# Altium footprint library Project_Oshinoko.PcbLib: 202 footprints (part 3 of 13)
Each footprint in its own frame and in the unit in brackets; x right, y up, seen from the top. Pads: shape width x height; smd on the part's side, far side on the other; paste and mask are expansions set on the pad; w line width, h text height; cw(c..) or ccw(c..) is an arc to the next point about the centre after c.
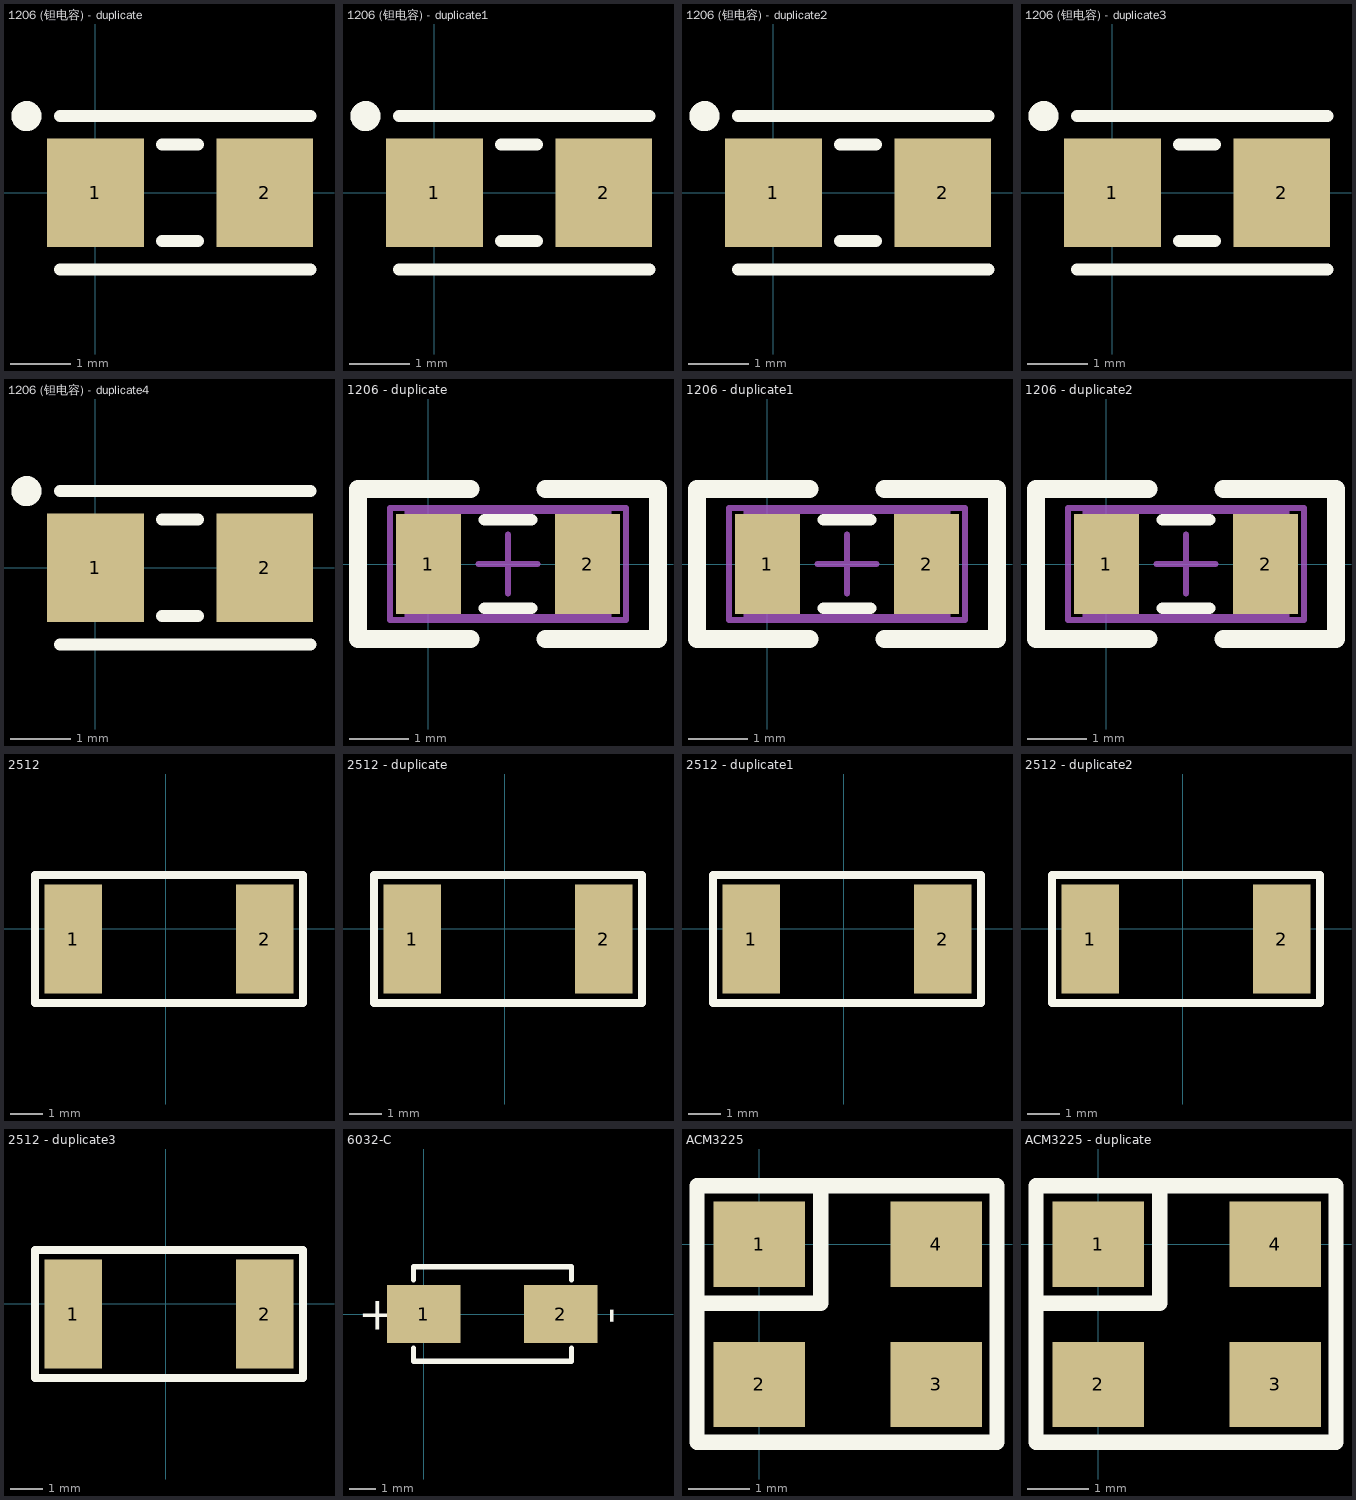
[diagram p2: the footprints below, top view; thin cyan lines are the x and y axes]

## 1206 (钽电容) - duplicate [mm]
pads (2):
  rect 1.6x1.8 smd: 1(0,0) 2(2.8,0)
Top Overlay:
  circle w0.25: c-1.141,1.27 r0.125
  lines w0.2: -0.585,-1.27 3.556,-1.27 ; -0.585,1.27 3.556,1.27 ; 1.1,-0.8 1.7,-0.8 ; 1.1,0.8 1.7,0.8

## 1206 (钽电容) - duplicate1 [mm]
pads (2):
  rect 1.6x1.8 smd: 1(0,0) 2(2.8,0)
Top Overlay:
  circle w0.25: c-1.141,1.27 r0.125
  lines w0.2: -0.585,-1.27 3.556,-1.27 ; -0.585,1.27 3.556,1.27 ; 1.1,-0.8 1.7,-0.8 ; 1.1,0.8 1.7,0.8

## 1206 (钽电容) - duplicate2 [mm]
pads (2):
  rect 1.6x1.8 smd: 1(0,0) 2(2.8,0)
Top Overlay:
  circle w0.25: c-1.141,1.27 r0.125
  lines w0.2: -0.585,-1.27 3.556,-1.27 ; -0.585,1.27 3.556,1.27 ; 1.1,-0.8 1.7,-0.8 ; 1.1,0.8 1.7,0.8

## 1206 (钽电容) - duplicate3 [mm]
pads (2):
  rect 1.6x1.8 smd: 1(0,0) 2(2.8,0)
Top Overlay:
  circle w0.25: c-1.141,1.27 r0.125
  lines w0.2: -0.585,-1.27 3.556,-1.27 ; -0.585,1.27 3.556,1.27 ; 1.1,-0.8 1.7,-0.8 ; 1.1,0.8 1.7,0.8

## 1206 (钽电容) - duplicate4 [mm]
pads (2):
  rect 1.6x1.8 smd: 1(0,0) 2(2.8,0)
Top Overlay:
  circle w0.25: c-1.141,1.27 r0.125
  lines w0.2: -0.585,-1.27 3.556,-1.27 ; -0.585,1.27 3.556,1.27 ; 1.1,-0.8 1.7,-0.8 ; 1.1,0.8 1.7,0.8

## 1206 - duplicate [mm]
pads (2):
  rect 1.1x1.7 smd: 1(0,0) 2(2.7,0)
Top Overlay:
  lines w0.2: 0.95,-0.75 1.75,-0.75 ; 0.95,0.75 1.75,0.75
  lines w0.305: 0.715,-1.27 -1.19,-1.27 -1.19,1.27 0.715,1.27 ; 1.985,-1.27 3.89,-1.27 3.89,1.27 1.985,1.27
Mechanical 13:
  lines w0.1: -0.35,-0.9 3.05,-0.9 3.05,0.9 -0.35,0.9 -0.35,-0.9
Mechanical 15:
  lines w0.1: 0.85,0 1.85,0 ; 1.35,-0.5 1.35,0.5 ; -0.65,-0.95 3.35,-0.95 3.35,0.95 -0.65,0.95 -0.65,-0.95
3D body: height 1.3, standoff 0, extent -0.35,-0.9 3.05,0.9

## 1206 - duplicate1 [mm]
pads (2):
  rect 1.1x1.7 smd: 1(0,0) 2(2.7,0)
Top Overlay:
  lines w0.2: 0.95,-0.75 1.75,-0.75 ; 0.95,0.75 1.75,0.75
  lines w0.305: 0.715,-1.27 -1.19,-1.27 -1.19,1.27 0.715,1.27 ; 1.985,-1.27 3.89,-1.27 3.89,1.27 1.985,1.27
Mechanical 13:
  lines w0.1: -0.35,-0.9 -0.35,0.9 3.05,0.9 3.05,-0.9 -0.35,-0.9
Mechanical 15:
  lines w0.1: 0.85,0 1.85,0 ; 1.35,-0.5 1.35,0.5 ; -0.65,-0.95 -0.65,0.95 3.35,0.95 3.35,-0.95 -0.65,-0.95
3D body: height 1.3, standoff 0, extent -0.35,-0.9 3.05,0.9

## 1206 - duplicate2 [mm]
pads (2):
  rect 1.1x1.7 smd: 1(0,0) 2(2.7,0)
Top Overlay:
  lines w0.2: 0.95,-0.75 1.75,-0.75 ; 0.95,0.75 1.75,0.75
  lines w0.305: 0.715,-1.27 -1.19,-1.27 -1.19,1.27 0.715,1.27 ; 1.985,-1.27 3.89,-1.27 3.89,1.27 1.985,1.27
Mechanical 13:
  lines w0.1: -0.35,-0.9 -0.35,0.9 3.05,0.9 3.05,-0.9 -0.35,-0.9
Mechanical 15:
  lines w0.1: 0.85,0 1.85,0 ; 1.35,-0.5 1.35,0.5 ; -0.65,-0.95 -0.65,0.95 3.35,0.95 3.35,-0.95 -0.65,-0.95
3D body: height 1.3, standoff 0, extent -0.35,-0.9 3.05,0.9

## 2512 [mm]
pads (2):
  rect 1.8x3.4 smd: 1(-2.903,-0.324) 2(3.097,-0.324)
Top Overlay:
  lines w0.254: -4.103,-2.324 4.297,-2.324 4.297,1.676 -4.103,1.676 -4.103,-0.324 -4.103,-2.324

## 2512 - duplicate [mm]
pads (2):
  rect 1.8x3.4 smd: 1(-2.903,-0.324) 2(3.097,-0.324)
Top Overlay:
  lines w0.254: -4.103,-2.324 -4.103,-0.324 -4.103,1.676 4.297,1.676 4.297,-2.324 -4.103,-2.324

## 2512 - duplicate1 [mm]
pads (2):
  rect 1.8x3.4 smd: 1(-2.903,-0.324) 2(3.097,-0.324)
Top Overlay:
  lines w0.254: -4.103,-2.324 -4.103,-0.324 -4.103,1.676 4.297,1.676 4.297,-2.324 -4.103,-2.324

## 2512 - duplicate2 [mm]
pads (2):
  rect 1.8x3.4 smd: 1(-2.903,-0.324) 2(3.097,-0.324)
Top Overlay:
  lines w0.254: -4.103,-2.324 -4.103,-0.324 -4.103,1.676 4.297,1.676 4.297,-2.324 -4.103,-2.324

## 2512 - duplicate3 [mm]
pads (2):
  rect 1.8x3.4 smd: 1(-2.903,-0.324) 2(3.097,-0.324)
Top Overlay:
  lines w0.254: -4.103,-2.324 4.297,-2.324 4.297,1.676 -4.103,1.676 -4.103,-0.324 -4.103,-2.324

## 6032-C [mm]
pads (2):
  rect 2.8x2.2 smd: 1(0,0) 2(5.2,0)
Top Overlay:
  lines w0.203: -0.395,-1.3 -0.395,-1.8 5.605,-1.8 5.605,-1.3 ; -0.395,1.3 -0.395,1.8 5.605,1.8 5.605,1.3
  text "+" at -2.5,-0.6 h1.27
  text "-" at 7.62,-0.381 h1.27

## ACM3225 [mm]
pads (4):
  rect 1.5x1.4 smd: 1(0,0) 2(0,-2.3) 3(2.9,-2.3) 4(2.9,0)
Top Overlay:
  lines w0.254: -1.02,-0.969 1.012,-0.969 1.012,0.961 ; -1.02,-3.25 -1.02,0.961 3.9,0.961 3.9,-3.25 -1.02,-3.25

## ACM3225 - duplicate [mm]
pads (4):
  rect 1.5x1.4 smd: 1(0,0) 2(0,-2.3) 3(2.9,-2.3) 4(2.9,0)
Top Overlay:
  lines w0.254: -1.02,-0.969 1.012,-0.969 1.012,0.961 ; -1.02,-3.25 3.9,-3.25 3.9,0.961 -1.02,0.961 -1.02,-3.25